# Altium footprint library isolatedGateDriver.PcbLib: 1 footprints
Each footprint in its own frame and in the unit in brackets; x right, y up, seen from the top. Pads: shape width x height; smd on the part's side, far side on the other; paste and mask are expansions set on the pad; w line width, h text height; cw(c..) or ccw(c..) is an arc to the next point about the centre after c.
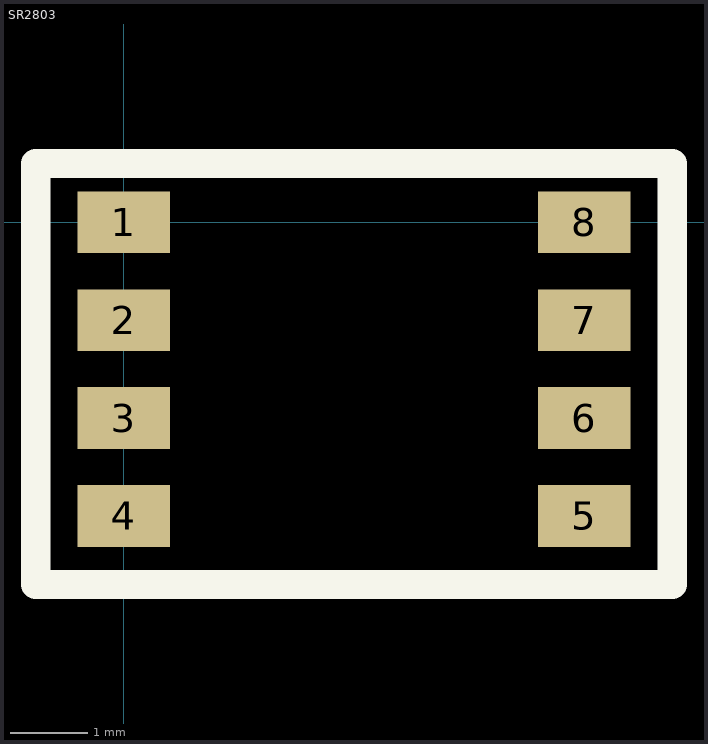
[diagram p0: the footprint, top view; thin cyan lines are the x and y axes]

## SR2803 [mm]
pads (8):
  rect 1.2x0.8 smd: 1(0,0) 2(0,-1.27) 3(0,-2.54) 4(0,-3.81) 5(5.969,-3.81) 6(5.969,-2.54) 7(5.969,-1.27) 8(5.969,0)
Top Overlay:
  lines w0.381: -1.143,-4.699 7.112,-4.699 7.112,0.762 -1.143,0.762 -1.143,-4.699
3D body "sop8.STEP": height 2.05, standoff 0.49, extent -0.069,-4.445 5.911,0.455